# Altium footprint library passive.PcbLib: 6 footprints
Each footprint in its own frame and in the unit in brackets; x right, y up, seen from the top. Pads: shape width x height; smd on the part's side, far side on the other; paste and mask are expansions set on the pad; w line width, h text height; cw(c..) or ccw(c..) is an arc to the next point about the centre after c.
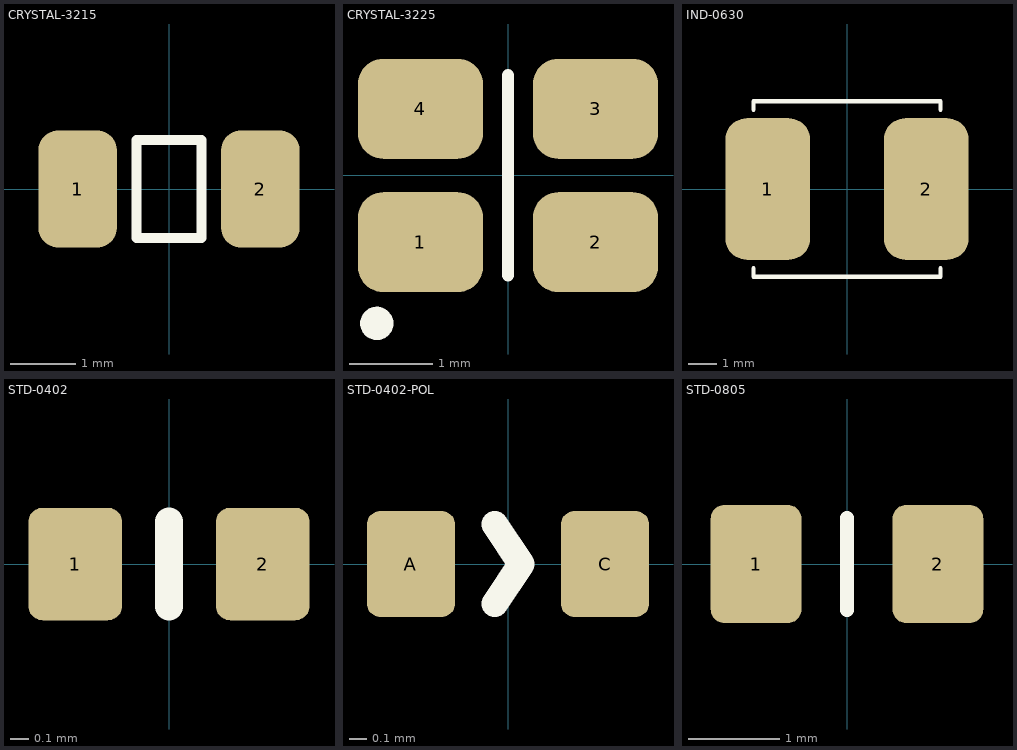
[diagram p0: the footprints below, top view; thin cyan lines are the x and y axes]

## CRYSTAL-3215 [mm]
pads (2):
  rrect50% 1.2x1.8 smd paste-1: 1(-1.4,0) 2(1.4,0)
Top Overlay:
  lines w0.15: -0.5,-0.75 -0.5,0.75 0.5,0.75 0.5,-0.75 -0.5,-0.75
3D body "crystal_rtf3215.stp": height 0.9, standoff -0.01, extent -1.6,-0.75 1.6,0.75

## CRYSTAL-3225 [mm]
pads (4):
  rrect50% 1.5x1.2 smd: 1(-1.05,-0.8) 2(1.05,-0.8) 3(1.05,0.8) 4(-1.05,0.8)
Top Overlay:
  circle w0.2: c-1.575,-1.775 r0.1
  lines w0.15: 0,-1.2 0,1.2
3D body "User Library-3225-1.step": height 0.61, standoff 0, extent -1.6,-1.25 1.6,1.25

## IND-0630 [mm]
height 3
pads (2):
  rrect50% 3x5 smd: 1(-2.8,0) 2(2.8,0)
Top Overlay:
  lines w0.15: -3.3,-2.8 -3.3,-3.1 0,-3.1 3.3,-3.1 3.3,-2.8 ; -3.3,2.8 -3.3,3.1 0,3.1 3.3,3.1 3.3,2.8
3D body "User Library-L0603.step": height 3, standoff 0, extent -3.7,-3.3 3.7,3.3

## STD-0402 [mm]
pads (2):
  rrect30% 0.5x0.6 smd: 1(-0.5,0) 2(0.5,0)
Top Overlay:
  lines w0.15: 0,-0.225 0,0.225
3D body: height 0.5, standoff 0, extent -0.5,-0.25 0.5,0.25

## STD-0402-POL [mm]
pads (2):
  rrect30% 0.5x0.6 smd: A(-0.55,0) C(0.55,0)
Top Overlay:
  lines w0.15: -0.075,-0.225 0.075,0 -0.075,0.225
3D body: height 0.5, standoff 0, extent -0.5,-0.25 0.5,0.25

## STD-0805 [mm]
pads (2):
  rrect30% 1x1.3 smd: 1(-1,0) 2(1,0)
Top Overlay:
  lines w0.15: 0,-0.508 0,0.508
3D body "User Library-cap_0805-1.step": height 1.2, standoff 0, extent -1,-0.6 1,0.6